# Altium footprint library Conn.Misc.PcbLib: 57 footprints (part 3 of 4)
Each footprint in its own frame and in the unit in brackets; x right, y up, seen from the top. Pads: shape width x height; smd on the part's side, far side on the other; paste and mask are expansions set on the pad; w line width, h text height; cw(c..) or ccw(c..) is an arc to the next point about the centre after c.
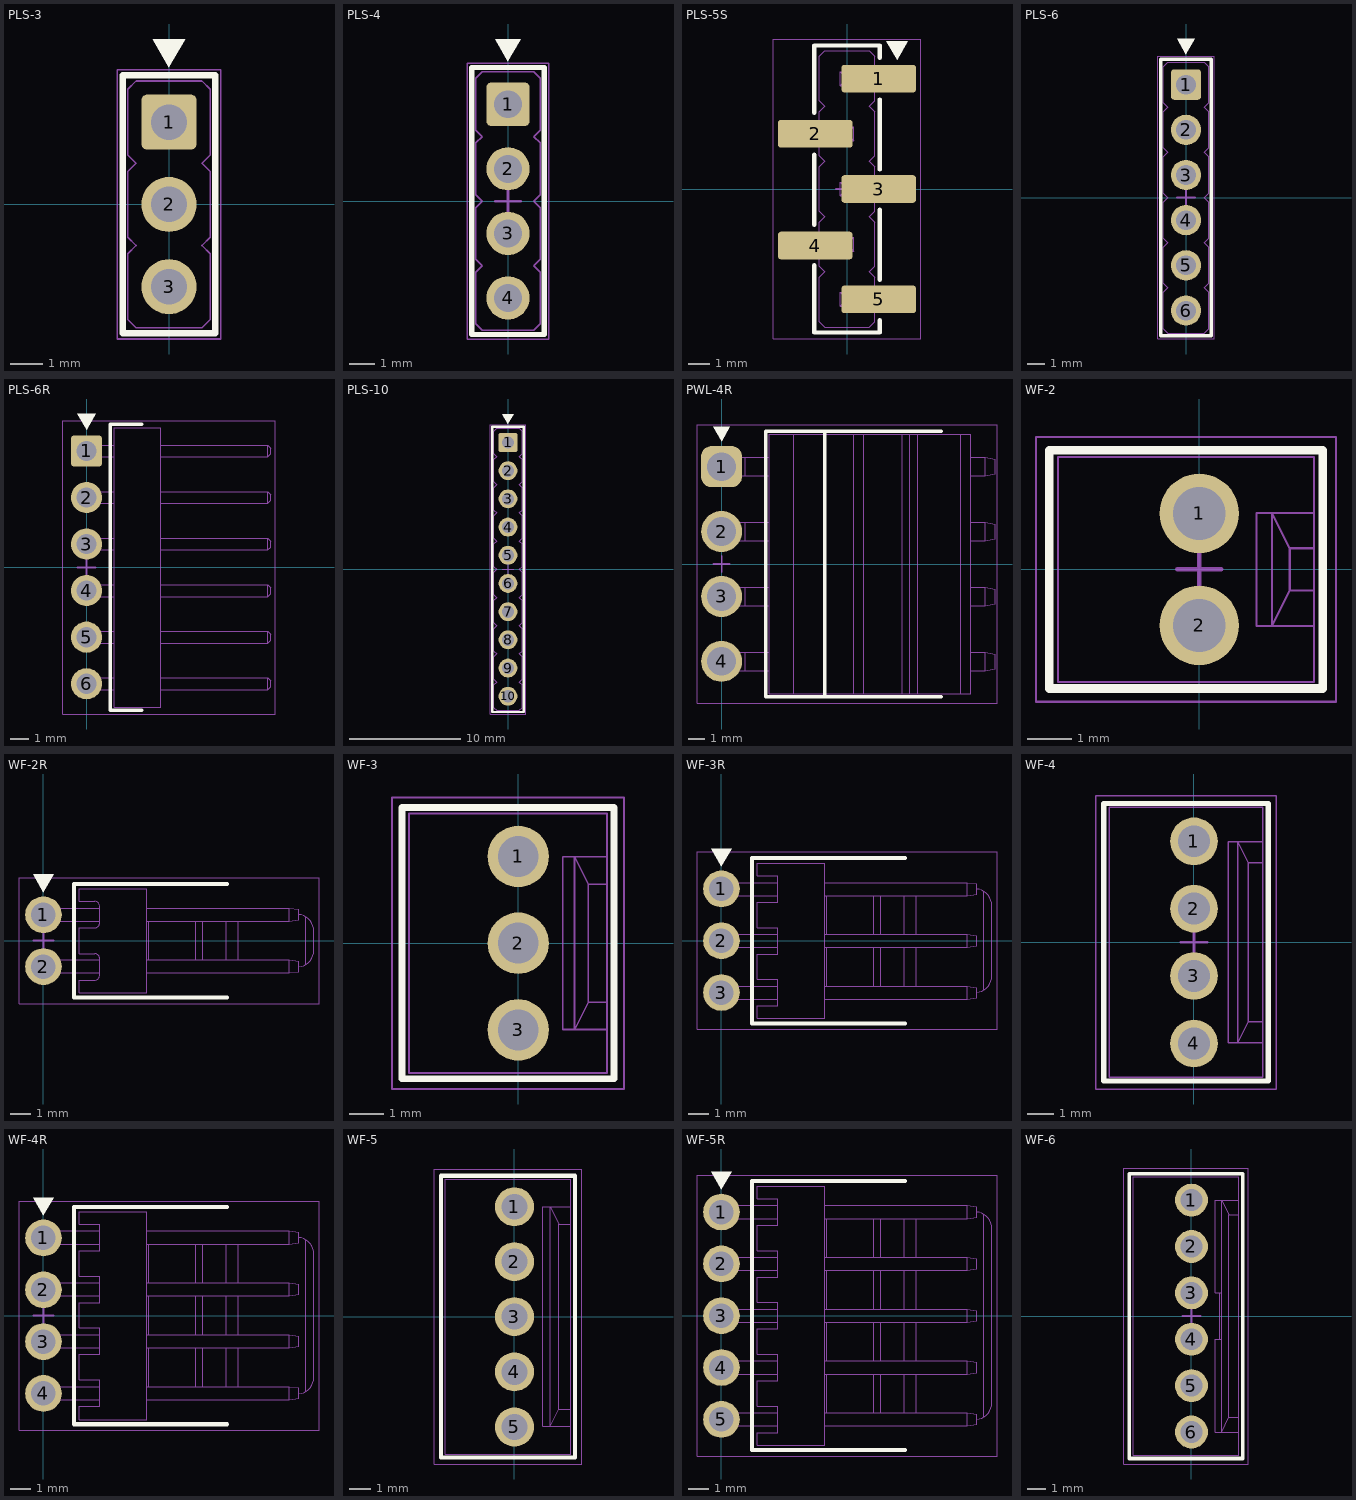
[diagram p2: the footprints below, top view; thin cyan lines are the x and y axes]

## PLS-3 [mm] "PLS Header, 2.54mm Pitch, 3-Leads"
height 8.54
pads (3):
  rrect20% 1.7x1.7 hole 1.1: 1(0,2.54)
  round 1.7 hole 1.1: 2(0,0) 3(0,-2.54)
Top Overlay:
  region: 0,4.24 0.5,5.106 -0.5,5.106
  lines w0.2: -1.425,-3.98 -1.425,3.98 1.425,3.98 1.425,-3.98 -1.425,-3.98
Mechanical 1:
  lines w0.05: -0.32,-2.86 0.32,-2.86 ; -0.32,-2.86 -0.32,-2.22 ; -0.32,-2.86 -0.16,-2.7 ; -0.32,-2.22 0.32,-2.22 ; -0.32,-2.22 -0.16,-2.38 ; -0.32,-0.32 -0.32,0.32 ; -0.32,-0.32 -0.16,-0.16 ; -0.32,-0.32 0.32,-0.32 ; -0.32,0.32 0.32,0.32 ; -0.32,0.32 -0.16,0.16 ; -0.32,2.22 -0.32,2.86 ; -0.32,2.22 -0.16,2.38 ; -0.32,2.22 0.32,2.22 ; -0.32,2.86 0.32,2.86 ; -0.32,2.86 -0.16,2.7 ; -0.16,-2.7 -0.16,-2.38 ; -0.16,-2.7 0.16,-2.7 ; -0.16,-2.38 0.16,-2.38 ; -0.16,-0.16 -0.16,0.16 ; -0.16,-0.16 0.16,-0.16 ; -0.16,0.16 0.16,0.16 ; -0.16,2.38 -0.16,2.7 ; -0.16,2.38 0.16,2.38 ; -0.16,2.7 0.16,2.7 ; 0.16,-2.7 0.32,-2.86 ; 0.16,-2.7 0.16,-2.38 ; 0.16,-2.38 0.32,-2.22 ; 0.16,-0.16 0.32,-0.32 ; 0.16,-0.16 0.16,0.16 ; 0.16,0.16 0.32,0.32 ; 0.16,2.38 0.32,2.22 ; 0.16,2.38 0.16,2.7 ; 0.16,2.7 0.32,2.86 ; 0.32,-2.86 0.32,-2.22 ; 0.32,-0.32 0.32,0.32 ; 0.32,2.22 0.32,2.86 ; -1.27,-3.556 -1.016,-3.81 1.016,-3.81 1.27,-3.556 1.27,-1.524 1.016,-1.27 1.27,-1.016 1.27,1.016 1.016,1.27 1.27,1.524 1.27,3.556 1.016,3.81 -1.016,3.81 -1.27,3.556 -1.27,1.524 -1.016,1.27 -1.27,1.016 -1.27,-1.016 -1.016,-1.27 -1.27,-1.524 -1.27,-3.556
Mechanical 15:
  lines w0.05: -1.6,-4.155 -1.6,4.155 1.6,4.155 1.6,-4.155 -1.6,-4.155
  lines w0.1: -0.5,0 0.5,0 ; 0,-0.5 0,0.5
3D body "PinHeader_1x03_P2.54mm_Vertical.step": height 8.54, standoff -3, extent -1.27,-3.81 1.27,3.81

## PLS-4 [mm] "PLS Header, 2.54mm Pitch, 3-Leads"
height 8.54
pads (4):
  rrect20% 1.7x1.7 hole 1.1: 1(0,3.81)
  round 1.7 hole 1.1: 2(0,1.27) 3(0,-1.27) 4(0,-3.81)
Top Overlay:
  region: 0,5.51 0.5,6.376 -0.5,6.376
  lines w0.2: -1.425,-5.25 1.425,-5.25 1.425,5.25 -1.425,5.25 -1.425,-5.25
Mechanical 1:
  lines w0.05: -0.32,-4.13 0.32,-4.13 ; -0.32,-4.13 -0.16,-3.97 ; -0.32,-4.13 -0.32,-3.49 ; -0.32,-3.49 -0.16,-3.65 ; -0.32,-3.49 0.32,-3.49 ; -0.32,-1.59 -0.16,-1.43 ; -0.32,-1.59 -0.32,-0.95 ; -0.32,-1.59 0.32,-1.59 ; -0.32,-0.95 -0.16,-1.11 ; -0.32,-0.95 0.32,-0.95 ; -0.32,0.95 0.32,0.95 ; -0.32,0.95 -0.16,1.11 ; -0.32,0.95 -0.32,1.59 ; -0.32,1.59 -0.16,1.43 ; -0.32,1.59 0.32,1.59 ; -0.32,3.49 0.32,3.49 ; -0.32,3.49 -0.16,3.65 ; -0.32,3.49 -0.32,4.13 ; -0.32,4.13 -0.16,3.97 ; -0.32,4.13 0.32,4.13 ; -0.16,-3.97 0.16,-3.97 ; -0.16,-3.97 -0.16,-3.65 ; -0.16,-3.65 0.16,-3.65 ; -0.16,-1.43 0.16,-1.43 ; -0.16,-1.43 -0.16,-1.11 ; -0.16,-1.11 0.16,-1.11 ; -0.16,1.11 0.16,1.11 ; -0.16,1.11 -0.16,1.43 ; -0.16,1.43 0.16,1.43 ; -0.16,3.65 0.16,3.65 ; -0.16,3.65 -0.16,3.97 ; -0.16,3.97 0.16,3.97 ; 0.16,-3.97 0.16,-3.65 ; 0.16,-3.97 0.32,-4.13 ; 0.16,-3.65 0.32,-3.49 ; 0.16,-1.43 0.16,-1.11 ; 0.16,-1.43 0.32,-1.59 ; 0.16,-1.11 0.32,-0.95 ; 0.16,1.11 0.16,1.43 ; 0.16,1.11 0.32,0.95 ; 0.16,1.43 0.32,1.59 ; 0.16,3.65 0.16,3.97 ; 0.16,3.65 0.32,3.49 ; 0.16,3.97 0.32,4.13 ; 0.32,-4.13 0.32,-3.49 ; 0.32,-1.59 0.32,-0.95 ; 0.32,0.95 0.32,1.59 ; 0.32,3.49 0.32,4.13 ; -1.27,-4.826 -1.27,-2.794 -1.016,-2.54 -1.27,-2.286 -1.27,-0.254 -1.016,0 -1.27,0.254 -1.27,2.286 -1.016,2.54 -1.27,2.794 -1.27,4.826 -1.016,5.08 1.016,5.08 1.27,4.826 1.27,2.794 1.016,2.54 1.27,2.286 1.27,0.254 1.016,0 1.27,-0.254 1.27,-2.286 1.016,-2.54 1.27,-2.794 1.27,-4.826 1.016,-5.08 -1.016,-5.08 -1.27,-4.826
Mechanical 15:
  lines w0.05: -1.6,-5.425 1.6,-5.425 1.6,5.425 -1.6,5.425 -1.6,-5.425
  lines w0.1: -0.5,0 0.5,0 ; 0,-0.5 0,0.5
3D body "PinHeader_1x04_P2.54mm_Vertical.step": height 8.54, standoff -3, extent -1.27,-5.08 1.27,5.08

## PLS-5S [mm] "PLS Header, 2.54mm Pitch, 5-Leads, Surface Mount"
height 9.3
pads (5):
  rrect20% 3.43x1.27 smd: 1(1.458,5.08) 2(-1.458,2.54) 3(1.458,0) 4(-1.458,-2.6) 5(1.458,-5.08)
Top Overlay:
  region: 2.3,5.94 2.8,6.806 1.8,6.806
  lines w0.2: -1.5,-3.5 -1.5,-6.6 1.5,-6.6 1.5,-6.04 ; -1.5,-1.64 -1.5,1.58 ; -1.5,3.5 -1.5,6.6 1.5,6.6 1.5,6.04 ; 1.5,-4.18 1.5,-0.96 ; 1.5,0.9 1.5,4.12
Mechanical 1:
  lines w0.05: -1.27,-2.86 -2.34,-2.86 ; -1.27,-2.22 -2.34,-2.22 ; -1.27,2.22 -2.34,2.22 ; -1.27,2.86 -2.34,2.86 ; 1.27,-5.4 2.34,-5.4 ; 1.27,-4.76 2.34,-4.76 ; 1.27,-0.32 2.34,-0.32 ; 1.27,0.32 2.34,0.32 ; 1.27,4.76 2.34,4.76 ; 1.27,5.4 2.34,5.4 ; -2.34,-2.86 -2.34,-2.22 ; -2.34,-2.86 -2.5,-2.7 -2.5,-2.38 -2.34,-2.22 ; -2.34,2.22 -2.34,2.86 ; -2.34,2.22 -2.5,2.38 -2.5,2.7 -2.34,2.86 ; -0.32,-5.4 0.32,-5.4 ; -0.32,-5.4 -0.16,-5.24 ; -0.32,-5.4 -0.32,-4.76 ; -0.32,-4.76 -0.16,-4.92 ; -0.32,-4.76 0.32,-4.76 ; -0.32,-2.86 0.32,-2.86 ; -0.32,-2.86 -0.16,-2.7 ; -0.32,-2.86 -0.32,-2.22 ; -0.32,-2.22 -0.16,-2.38 ; -0.32,-2.22 0.32,-2.22 ; -0.32,-0.32 0.32,-0.32 ; -0.32,-0.32 -0.16,-0.16 ; -0.32,-0.32 -0.32,0.32 ; -0.32,0.32 -0.16,0.16 ; -0.32,0.32 0.32,0.32 ; -0.32,2.22 0.32,2.22 ; -0.32,2.22 -0.16,2.38 ; -0.32,2.22 -0.32,2.86 ; -0.32,2.86 -0.16,2.7 ; -0.32,2.86 0.32,2.86 ; -0.32,4.76 -0.16,4.92 ; -0.32,4.76 -0.32,5.4 ; -0.32,4.76 0.32,4.76 ; -0.32,5.4 -0.16,5.24 ; -0.32,5.4 0.32,5.4 ; -0.16,-5.24 -0.16,-4.92 ; -0.16,-5.24 0.16,-5.24 ; -0.16,-4.92 0.16,-4.92 ; -0.16,-2.7 0.16,-2.7 ; -0.16,-2.7 -0.16,-2.38 ; -0.16,-2.38 0.16,-2.38 ; -0.16,-0.16 -0.16,0.16 ; -0.16,-0.16 0.16,-0.16 ; -0.16,0.16 0.16,0.16 ; -0.16,2.38 0.16,2.38 ; -0.16,2.38 -0.16,2.7 ; -0.16,2.7 0.16,2.7 ; -0.16,4.92 -0.16,5.24 ; -0.16,4.92 0.16,4.92 ; -0.16,5.24 0.16,5.24 ; 0.16,-5.24 0.16,-4.92 ; 0.16,-5.24 0.32,-5.4 ; 0.16,-4.92 0.32,-4.76 ; 0.16,-2.7 0.16,-2.38 ; 0.16,-2.7 0.32,-2.86 ; 0.16,-2.38 0.32,-2.22 ; 0.16,-0.16 0.16,0.16 ; 0.16,-0.16 0.32,-0.32 ; 0.16,0.16 0.32,0.32 ; 0.16,2.38 0.16,2.7 ; 0.16,2.38 0.32,2.22 ; 0.16,2.7 0.32,2.86 ; 0.16,4.92 0.16,5.24 ; 0.16,4.92 0.32,4.76 ; 0.16,5.24 0.32,5.4 ; 0.32,-5.4 0.32,-4.76 ; 0.32,-2.86 0.32,-2.22 ; 0.32,-0.32 0.32,0.32 ; 0.32,2.22 0.32,2.86 ; 0.32,4.76 0.32,5.4 ; 2.34,-5.4 2.34,-4.76 ; 2.34,-5.4 2.5,-5.24 2.5,-4.92 2.34,-4.76 ; 2.34,-0.32 2.34,0.32 ; 2.34,-0.32 2.5,-0.16 2.5,0.16 2.34,0.32 ; 2.34,4.76 2.5,4.92 2.5,5.24 2.34,5.4 ; 2.34,4.76 2.34,5.4 ; -1.27,-6.096 -1.016,-6.35 1.016,-6.35 1.27,-6.096 1.27,-4.064 1.016,-3.81 1.27,-3.556 1.27,-1.524 1.016,-1.27 1.27,-1.016 1.27,1.016 1.016,1.27 1.27,1.524 1.27,3.556 1.016,3.81 1.27,4.064 1.27,6.096 1.016,6.35 -1.016,6.35 -1.27,6.096 -1.27,4.064 -1.016,3.81 -1.27,3.556 -1.27,1.524 -1.016,1.27 -1.27,1.016 -1.27,-1.016 -1.016,-1.27 -1.27,-1.524 -1.27,-3.556 -1.016,-3.81 -1.27,-4.064 -1.27,-6.096
Mechanical 15:
  lines w0.05: -3.4,-6.9 -3.4,6.9 3.4,6.9 3.4,-6.9 -3.4,-6.9
  lines w0.1: -0.5,0 0.5,0 ; 0,-0.5 0,0.5
3D body "PinHeader_1x05_P2.54mm_Vertical_SMD_Pin1Right.step": height 9.3, standoff 0, extent -2.5,-6.35 2.5,6.35

## PLS-6 [mm] "PLS Header, 2.54mm Pitch, 6-Leads"
height 8.54
pads (6):
  rrect20% 1.7x1.7 hole 1.1: 1(0,6.35)
  round 1.7 hole 1.1: 2(0,3.81) 3(0,1.27) 4(0,-1.27) 5(0,-3.81) 6(0,-6.35)
Top Overlay:
  region: 0,8.05 0.5,8.916 -0.5,8.916
  lines w0.2: -1.425,-7.775 -1.425,7.775 1.425,7.775 1.425,-7.775 -1.425,-7.775
Mechanical 1:
  lines w0.05: -0.32,-6.67 0.32,-6.67 ; -0.32,-6.67 -0.32,-6.03 ; -0.32,-6.67 -0.16,-6.51 ; -0.32,-6.03 0.32,-6.03 ; -0.32,-6.03 -0.16,-6.19 ; -0.32,-4.13 -0.32,-3.49 ; -0.32,-4.13 -0.16,-3.97 ; -0.32,-4.13 0.32,-4.13 ; -0.32,-3.49 0.32,-3.49 ; -0.32,-3.49 -0.16,-3.65 ; -0.32,-1.59 0.32,-1.59 ; -0.32,-1.59 -0.32,-0.95 ; -0.32,-1.59 -0.16,-1.43 ; -0.32,-0.95 0.32,-0.95 ; -0.32,-0.95 -0.16,-1.11 ; -0.32,0.95 -0.32,1.59 ; -0.32,0.95 -0.16,1.11 ; -0.32,0.95 0.32,0.95 ; -0.32,1.59 0.32,1.59 ; -0.32,1.59 -0.16,1.43 ; -0.32,3.49 -0.32,4.13 ; -0.32,3.49 -0.16,3.65 ; -0.32,3.49 0.32,3.49 ; -0.32,4.13 0.32,4.13 ; -0.32,4.13 -0.16,3.97 ; -0.32,6.03 0.32,6.03 ; -0.32,6.03 -0.32,6.67 ; -0.32,6.03 -0.16,6.19 ; -0.32,6.67 0.32,6.67 ; -0.32,6.67 -0.16,6.51 ; -0.16,-6.51 -0.16,-6.19 ; -0.16,-6.51 0.16,-6.51 ; -0.16,-6.19 0.16,-6.19 ; -0.16,-3.97 -0.16,-3.65 ; -0.16,-3.97 0.16,-3.97 ; -0.16,-3.65 0.16,-3.65 ; -0.16,-1.43 -0.16,-1.11 ; -0.16,-1.43 0.16,-1.43 ; -0.16,-1.11 0.16,-1.11 ; -0.16,1.11 -0.16,1.43 ; -0.16,1.11 0.16,1.11 ; -0.16,1.43 0.16,1.43 ; -0.16,3.65 -0.16,3.97 ; -0.16,3.65 0.16,3.65 ; -0.16,3.97 0.16,3.97 ; -0.16,6.19 -0.16,6.51 ; -0.16,6.19 0.16,6.19 ; -0.16,6.51 0.16,6.51 ; 0.16,-6.51 0.32,-6.67 ; 0.16,-6.51 0.16,-6.19 ; 0.16,-6.19 0.32,-6.03 ; 0.16,-3.97 0.32,-4.13 ; 0.16,-3.97 0.16,-3.65 ; 0.16,-3.65 0.32,-3.49 ; 0.16,-1.43 0.32,-1.59 ; 0.16,-1.43 0.16,-1.11 ; 0.16,-1.11 0.32,-0.95 ; 0.16,1.11 0.32,0.95 ; 0.16,1.11 0.16,1.43 ; 0.16,1.43 0.32,1.59 ; 0.16,3.65 0.32,3.49 ; 0.16,3.65 0.16,3.97 ; 0.16,3.97 0.32,4.13 ; 0.16,6.19 0.32,6.03 ; 0.16,6.19 0.16,6.51 ; 0.16,6.51 0.32,6.67 ; 0.32,-6.67 0.32,-6.03 ; 0.32,-4.13 0.32,-3.49 ; 0.32,-1.59 0.32,-0.95 ; 0.32,0.95 0.32,1.59 ; 0.32,3.49 0.32,4.13 ; 0.32,6.03 0.32,6.67 ; -1.27,-7.366 -1.016,-7.62 1.016,-7.62 1.27,-7.366 1.27,-5.334 1.016,-5.08 1.27,-4.826 1.27,-2.794 1.016,-2.54 1.27,-2.286 1.27,-0.254 1.016,0 1.27,0.254 1.27,2.286 1.016,2.54 1.27,2.794 1.27,4.826 1.016,5.08 1.27,5.334 1.27,7.366 1.016,7.62 -1.016,7.62 -1.27,7.366 -1.27,5.334 -1.016,5.08 -1.27,4.826 -1.27,2.794 -1.016,2.54 -1.27,2.286 -1.27,0.254 -1.016,0 -1.27,-0.254 -1.27,-2.286 -1.016,-2.54 -1.27,-2.794 -1.27,-4.826 -1.016,-5.08 -1.27,-5.334 -1.27,-7.366
Mechanical 15:
  lines w0.05: -1.6,-7.95 -1.6,7.95 1.6,7.95 1.6,-7.95 -1.6,-7.95
  lines w0.1: -0.5,0 0.5,0 ; 0,-0.5 0,0.5
3D body "PinHeader_1x06_P2.54mm_Vertical.step": height 8.54, standoff -3, extent -1.27,-7.62 1.27,7.62

## PLS-6R [mm] "PLS Header, 2.54mm Pitch, 6-Leads, Right Angled"
height 2.54
pads (6):
  rrect20% 1.7x1.7 hole 1.1: 1(0,6.35)
  round 1.7 hole 1.1: 2(0,3.81) 3(0,1.27) 4(0,-1.27) 5(0,-3.81) 6(0,-6.35)
Top Overlay:
  region: 0,7.5 0.5,8.366 -0.5,8.366
  lines w0.2: 3,-7.8 1.3,-7.8 1.3,7.8 3,7.8
Mechanical 1:
  lines w0.05: 0.32,-6.67 0.32,-6.03 ; 0.32,-4.13 0.32,-3.49 ; 0.32,-1.59 0.32,-0.95 ; 0.32,0.95 0.32,1.59 ; 0.32,3.49 0.32,4.13 ; 0.32,6.03 0.32,6.67 ; 1.5,-6.67 -0.32,-6.67 -0.32,-6.03 1.5,-6.03 ; 1.5,-4.13 -0.32,-4.13 -0.32,-3.49 1.5,-3.49 ; 1.5,-1.59 -0.32,-1.59 -0.32,-0.95 1.5,-0.95 ; 1.5,0.95 -0.32,0.95 -0.32,1.59 1.5,1.59 ; 1.5,3.49 -0.32,3.49 -0.32,4.13 1.5,4.13 ; 1.5,6.03 -0.32,6.03 -0.32,6.67 1.5,6.67 ; 4.04,-6.67 9.88,-6.67 ; 4.04,-6.03 9.88,-6.03 ; 4.04,-4.13 9.88,-4.13 ; 4.04,-3.49 9.88,-3.49 ; 4.04,-1.59 9.88,-1.59 ; 4.04,-0.95 9.88,-0.95 ; 4.04,0.95 9.88,0.95 ; 4.04,1.59 9.88,1.59 ; 4.04,3.49 9.88,3.49 ; 4.04,4.13 9.88,4.13 ; 4.04,6.03 9.88,6.03 ; 4.04,6.67 9.88,6.67 ; 9.88,-6.67 10.04,-6.51 10.04,-6.19 9.88,-6.03 ; 9.88,-6.67 9.88,-6.03 ; 9.88,-4.13 9.88,-3.49 ; 9.88,-4.13 10.04,-3.97 10.04,-3.65 9.88,-3.49 ; 9.88,-1.59 10.04,-1.43 10.04,-1.11 9.88,-0.95 ; 9.88,-1.59 9.88,-0.95 ; 9.88,0.95 10.04,1.11 10.04,1.43 9.88,1.59 ; 9.88,0.95 9.88,1.59 ; 9.88,3.49 9.88,4.13 ; 9.88,3.49 10.04,3.65 10.04,3.97 9.88,4.13 ; 9.88,6.03 9.88,6.67 ; 9.88,6.03 10.04,6.19 10.04,6.51 9.88,6.67 ; 1.5,-7.62 1.5,7.62 4.04,7.62 4.04,-7.62 1.5,-7.62
Mechanical 15:
  lines w0.05: -1.3,-8 -1.3,8 10.3,8 10.3,-8 -1.3,-8
  lines w0.1: -0.5,0 0.5,0 ; 0,-0.5 0,0.5
3D body "PinHeader_1x06_P2.54mm_Horizontal.step": height 2.54, standoff -3, extent -0.32,-7.62 10.04,7.62

## PLS-10 [mm] "PLS Header, 2.54mm Pitch, 10-Leads"
height 8.54
pads (10):
  rrect20% 1.7x1.7 hole 1.1: 1(0,11.43)
  round 1.7 hole 1.1: 2(0,8.89) 3(0,6.35) 4(0,3.81) 5(0,1.27) 6(0,-1.27) 7(0,-3.81) 8(0,-6.35) 9(0,-8.89) 10(0,-11.43)
Top Overlay:
  region: 0,13.13 0.5,13.996 -0.5,13.996
  lines w0.2: -1.425,-12.855 1.425,-12.855 1.425,12.855 -1.425,12.855 -1.425,-12.855
Mechanical 1:
  drawing of 182 lines, arcs and shapes, not listed
Mechanical 15:
  lines w0.05: -1.6,-13.03 1.6,-13.03 1.6,13.03 -1.6,13.03 -1.6,-13.03
  lines w0.1: -0.5,0 0.5,0 ; 0,-0.5 0,0.5
3D body "PinHeader_1x10_P2.54mm_Vertical.step": height 8.54, standoff -3, extent -1.27,-12.7 1.27,12.7

## PWL-4R [mm] "PWL Header, 4-Pins, 3.96mm Pitch"
height 9.7
pads (4):
  rrect50% 2.5x2.5 hole 1.75: 1(0,5.94)
  round 2.5 hole 1.75: 2(0,1.98) 3(0,-1.98) 4(0,-5.94)
Top Overlay:
  region: 0,7.5 0.5,8.366 -0.5,8.366
  lines w0.2: 6.3,-8.1 6.3,8.1 ; 13.4,-8.1 2.7,-8.1 2.7,8.1 13.4,8.1
Mechanical 1:
  lines w0.05: 1.43,-6.51 1.43,-5.37 ; 1.43,-2.55 1.43,-1.41 ; 1.43,1.41 1.43,2.55 ; 1.43,5.37 1.43,6.51 ; 2.898,-6.51 -0.57,-6.51 -0.57,-5.37 2.898,-5.37 ; 2.898,-2.55 -0.57,-2.55 -0.57,-1.41 2.898,-1.41 ; 2.898,1.41 -0.57,1.41 -0.57,2.55 2.898,2.55 ; 2.898,5.37 -0.57,5.37 -0.57,6.51 2.898,6.51 ; 4.398,-7.92 4.398,7.92 ; 8.071,-7.92 8.071,7.92 ; 8.662,-7.92 8.662,7.92 ; 11.009,-7.92 11.009,7.92 ; 11.481,-7.92 11.481,7.92 ; 11.975,-7.92 11.975,7.92 ; 14.581,-7.92 14.581,7.92 ; 15.198,-6.51 16.098,-6.51 ; 15.198,-5.37 16.098,-5.37 ; 15.198,-2.55 16.098,-2.55 ; 15.198,-1.41 16.098,-1.41 ; 15.198,1.41 16.098,1.41 ; 15.198,2.55 16.098,2.55 ; 15.198,5.37 16.098,5.37 ; 15.198,6.51 16.098,6.51 ; 16.098,-6.51 16.698,-6.382 16.698,-5.498 16.098,-5.37 ; 16.098,-6.51 16.098,-5.37 ; 16.098,-2.55 16.098,-1.41 ; 16.098,-2.55 16.698,-2.422 16.698,-1.538 16.098,-1.41 ; 16.098,1.41 16.098,2.55 ; 16.098,1.41 16.698,1.538 16.698,2.422 16.098,2.55 ; 16.098,5.37 16.698,5.498 16.698,6.382 16.098,6.51 ; 16.098,5.37 16.098,6.51 ; 2.898,-7.92 15.198,-7.92 15.198,7.92 2.898,7.92 2.898,-7.92
Mechanical 15:
  lines w0.05: -1.5,-8.5 -1.5,8.5 16.8,8.5 16.8,-8.5 -1.5,-8.5
  lines w0.1: -0.5,0 0.5,0 ; 0,-0.5 0,0.5
3D body "PWL-4R.STEP": height 10.4, standoff -3.7, extent -0.57,-7.92 16.698,7.92

## WF-2 [mm] "WF Header, 2-Lead, 2.54mm Pitch"
height 11.5
pads (2):
  round 1.8 hole 1.2: 1(0,1.27) 2(0,-1.27)
Top Overlay:
  lines w0.2: -3.4,-2.7 -3.4,2.7 2.8,2.7 2.8,-2.7 -3.4,-2.7
Bottom Overlay:
  region: 0,2.38 0.5,3.246 -0.5,3.246
Mechanical 1:
  lines w0.05: 2.6,-1.28 1.3,-1.28 1.3,1.28 2.6,1.28 ; 2.6,-0.48 2.05,-0.48 ; 2.6,0.48 2.05,0.48 ; -0.32,-0.95 0.32,-0.95 ; -0.32,-0.95 -0.25,-1.02 ; -0.32,-0.95 -0.32,-1.61 0.32,-1.61 0.32,-0.95 ; -0.32,0.95 0.32,0.95 ; -0.32,0.95 -0.25,1.02 ; -0.32,0.95 -0.32,1.59 ; -0.32,1.59 -0.25,1.52 ; -0.32,1.59 0.32,1.59 ; -0.25,-1.52 -0.32,-1.59 0.32,-1.59 0.25,-1.52 ; -0.25,-1.52 -0.25,-1.02 ; -0.25,-1.52 0.25,-1.52 ; -0.25,-1.02 0.25,-1.02 ; -0.25,1.02 0.25,1.02 ; -0.25,1.02 -0.25,1.52 ; -0.25,1.52 0.25,1.52 ; 0.25,-1.52 0.25,-1.02 ; 0.25,-1.02 0.32,-0.95 ; 0.25,1.02 0.32,0.95 ; 0.25,1.02 0.25,1.52 ; 0.25,1.52 0.32,1.59 ; 0.32,0.95 0.32,1.59 ; 2.05,-0.48 1.65,-1.28 1.65,1.28 2.05,0.48 ; 2.05,-0.48 2.05,0.48 ; -3.2,-2.55 -3.2,2.55 2.6,2.55 2.6,-2.55 -3.2,-2.55
Mechanical 15:
  lines w0.05: -3.7,-3 3.1,-3 3.1,3 -3.7,3 -3.7,-3
  lines w0.1: -0.5,0 0.5,0 ; 0,-0.5 0,0.5
3D body "CI3102P1V00.STEP": height 11.5, standoff -3.4, extent -3.2,-2.55 2.6,2.55

## WF-2R [mm] "WF Header, 2-Lead, 2.54mm Pitch, Right-Angle Mount"
height 5.8
pads (2):
  round 1.8 hole 1.2: 1(0,1.27) 2(0,-1.27)
Top Overlay:
  region: 0,2.38 -0.5,3.246 0.5,3.246
  lines w0.2: 9,-2.78 1.5,-2.78 1.5,2.78 9,2.78
Mechanical 1:
  lines w0.05: 0.5,-1.58 0.5,-0.94 ; 0.5,0.96 0.5,1.6 ; 2.75,-1.58 -0.32,-1.58 -0.32,-0.94 2.75,-0.94 ; 2.75,0.96 -0.32,0.96 -0.32,1.6 2.75,1.6 ; 5.05,-1.58 12.05,-1.58 ; 5.05,-0.94 12.05,-0.94 ; 5.05,0.96 12.05,0.96 ; 5.05,1.6 12.05,1.6 ; 5.15,-0.94 5.15,0.96 ; 7.45,-0.94 7.45,0.96 ; 7.8,-0.94 7.8,0.96 ; 8.944,-0.94 8.944,0.96 ; 9.55,-0.94 9.55,0.96 ; 12.5,-1.278 ccw(c12.45,-0.48) 13.25,-0.48 13.25,0.48 ccw(c12.45,0.48) 12.5,1.279 ; 12.85,-1.173 12.85,1.173 ; 12.05,-1.58 12.5,-1.51 12.5,-1.01 12.05,-0.94 ; 12.05,-1.58 12.05,-0.94 ; 12.05,0.96 12.5,1.03 12.5,1.53 12.05,1.6 ; 12.05,0.96 12.05,1.6 ; 1.75,-2.55 5.05,-2.55 5.05,2.55 1.75,2.55 1.75,1.93 2.5,1.93 cw(c2.5,1.68) 2.75,1.68 2.75,0.88 cw(c2.5,0.88) 2.5,0.63 1.75,0.63 1.75,-0.63 2.5,-0.63 cw(c2.5,-0.88) 2.75,-0.88 2.75,-1.68 cw(c2.5,-1.68) 2.5,-1.93 1.75,-1.93 1.75,-2.55
Mechanical 15:
  lines w0.05: -1.2,-3.08 13.5,-3.08 13.5,3.08 -1.2,3.08 -1.2,-3.08
  lines w0.1: -0.5,0 0.5,0 ; 0,-0.5 0,0.5
3D body "CI3102P1H00-NH.STEP": height 5.8, standoff -3.4, extent -0.32,-2.55 13.25,2.55

## WF-3 [mm] "WF Header, 3-Lead, 2.54mm Pitch"
height 11.5
pads (3):
  round 1.8 hole 1.2: 1(0,2.54) 2(0,0) 3(0,-2.54)
Top Overlay:
  lines w0.2: -3.4,-3.97 -3.4,3.97 2.8,3.97 2.8,-3.97 -3.4,-3.97
Bottom Overlay:
  region: 0,3.65 0.5,4.516 -0.5,4.516
Mechanical 1:
  lines w0.05: 2.6,-2.53 1.3,-2.53 1.3,2.53 2.6,2.53 ; 2.6,-1.73 2.05,-1.73 ; 2.6,1.73 2.05,1.73 ; -0.32,-2.87 0.32,-2.87 ; -0.32,-2.87 -0.25,-2.8 ; -0.32,-2.87 -0.32,-2.23 ; -0.32,-2.23 0.32,-2.23 ; -0.32,-2.23 -0.25,-2.3 ; -0.32,-0.33 0.32,-0.33 ; -0.32,-0.33 -0.25,-0.26 ; -0.32,-0.33 -0.32,0.31 ; -0.32,0.31 -0.25,0.24 ; -0.32,0.31 0.32,0.31 ; -0.32,2.21 0.32,2.21 ; -0.32,2.21 -0.25,2.28 ; -0.32,2.21 -0.32,2.85 ; -0.32,2.85 -0.25,2.78 ; -0.32,2.85 0.32,2.85 ; -0.25,-2.8 -0.25,-2.3 ; -0.25,-2.8 0.25,-2.8 ; -0.25,-2.3 0.25,-2.3 ; -0.25,-0.26 0.25,-0.26 ; -0.25,-0.26 -0.25,0.24 ; -0.25,0.24 0.25,0.24 ; -0.25,2.28 0.25,2.28 ; -0.25,2.28 -0.25,2.78 ; -0.25,2.78 0.25,2.78 ; 0.25,-2.8 0.32,-2.87 ; 0.25,-2.8 0.25,-2.3 ; 0.25,-2.3 0.32,-2.23 ; 0.25,-0.26 0.32,-0.33 ; 0.25,-0.26 0.25,0.24 ; 0.25,0.24 0.32,0.31 ; 0.25,2.28 0.32,2.21 ; 0.25,2.28 0.25,2.78 ; 0.25,2.78 0.32,2.85 ; 0.32,-2.87 0.32,-2.23 ; 0.32,-0.33 0.32,0.31 ; 0.32,2.21 0.32,2.85 ; 2.05,-1.73 1.65,-2.53 1.65,2.53 2.05,1.73 ; 2.05,-1.73 2.05,1.73 ; -3.2,-3.8 -3.2,3.8 2.6,3.8 2.6,-3.8 -3.2,-3.8
Mechanical 15:
  lines w0.05: -3.7,-4.27 3.1,-4.27 3.1,4.27 -3.7,4.27 -3.7,-4.27
  lines w0.1: -0.5,0 0.5,0 ; 0,-0.5 0,0.5
3D body "CI3103P1V00.STEP": height 11.5, standoff -3.4, extent -3.2,-3.8 2.6,3.8

## WF-3R [mm] "WF Header, 3-Lead, 2.54mm Pitch, Right-Angle Mount"
height 5.8
pads (3):
  round 1.8 hole 1.2: 1(0,2.54) 2(0,0) 3(0,-2.54)
Top Overlay:
  region: 0,3.65 -0.5,4.516 0.5,4.516
  lines w0.2: 9,-4.05 1.5,-4.05 1.5,4.05 9,4.05
Mechanical 1:
  lines w0.05: 0.5,-2.87 0.5,-2.23 ; 0.5,-0.33 0.5,0.31 ; 0.5,2.21 0.5,2.85 ; 2.75,-2.87 -0.32,-2.87 -0.32,-2.23 2.75,-2.23 ; 2.75,-0.33 -0.32,-0.33 -0.32,0.31 2.75,0.31 ; 2.75,2.21 -0.32,2.21 -0.32,2.85 2.75,2.85 ; 5.05,-2.87 12.05,-2.87 ; 5.05,-2.23 12.05,-2.23 ; 5.05,-0.33 12.05,-0.33 ; 5.05,0.31 12.05,0.31 ; 5.05,2.21 12.05,2.21 ; 5.05,2.85 12.05,2.85 ; 5.15,-2.23 5.15,-0.33 ; 5.15,0.31 5.15,2.21 ; 7.45,-2.23 7.45,-0.33 ; 7.45,0.31 7.45,2.21 ; 7.8,-2.23 7.8,-0.33 ; 7.8,0.31 7.8,2.21 ; 8.944,-2.23 8.944,-0.33 ; 8.944,0.31 8.944,2.21 ; 9.55,-2.23 9.55,-0.33 ; 9.55,0.31 9.55,2.21 ; 12.5,-2.528 ccw(c12.45,-1.73) 13.25,-1.73 13.25,1.73 ccw(c12.45,1.73) 12.5,2.529 ; 12.85,-2.423 12.85,2.423 ; 12.05,-2.87 12.05,-2.23 ; 12.05,-2.87 12.5,-2.8 12.5,-2.3 12.05,-2.23 ; 12.05,-0.33 12.5,-0.26 12.5,0.24 12.05,0.31 ; 12.05,-0.33 12.05,0.31 ; 12.05,2.21 12.5,2.28 12.5,2.78 12.05,2.85 ; 12.05,2.21 12.05,2.85 ; 1.75,-3.8 1.75,-3.2 2.75,-3.2 2.75,-1.9 1.75,-1.9 1.75,-0.66 2.75,-0.66 2.75,0.64 1.75,0.64 1.75,1.88 2.75,1.88 2.75,3.18 1.75,3.18 1.75,3.8 5.05,3.8 5.05,-3.8 1.75,-3.8
Mechanical 15:
  lines w0.05: -1.2,-4.35 13.5,-4.35 13.5,4.35 -1.2,4.35 -1.2,-4.35
  lines w0.1: -0.5,0 0.5,0 ; 0,-0.5 0,0.5
3D body "CI3103P1H00-NH.STEP": height 5.8, standoff -3.4, extent -0.32,-3.8 13.25,3.8

## WF-4 [mm] "WF Header, 4-Lead, 2.54mm Pitch"
height 11.5
pads (4):
  round 1.8 hole 1.2: 1(0,3.81) 2(0,1.27) 3(0,-1.27) 4(0,-3.82)
Top Overlay:
  lines w0.2: -3.4,-5.24 -3.4,5.24 2.8,5.24 2.8,-5.24 -3.4,-5.24
Bottom Overlay:
  region: 0,4.92 0.5,5.786 -0.5,5.786
Mechanical 1:
  lines w0.05: 2.6,-3.8 1.3,-3.8 1.3,3.8 2.6,3.8 ; 2.6,-3 2.05,-3 ; 2.6,3 2.05,3 ; -0.32,-4.15 0.32,-4.15 ; -0.32,-4.15 -0.25,-4.08 ; -0.32,-4.15 -0.32,-3.51 ; -0.32,-3.51 0.32,-3.51 ; -0.32,-3.51 -0.25,-3.58 ; -0.32,-1.6 0.32,-1.6 ; -0.32,-1.6 -0.25,-1.53 ; -0.32,-1.6 -0.32,-0.96 ; -0.32,-0.96 0.32,-0.96 ; -0.32,-0.96 -0.25,-1.03 ; -0.32,0.94 0.32,0.94 ; -0.32,0.94 -0.25,1.01 ; -0.32,0.94 -0.32,1.58 ; -0.32,1.58 -0.25,1.51 ; -0.32,1.58 0.32,1.58 ; -0.32,3.48 0.32,3.48 ; -0.32,3.48 -0.25,3.55 ; -0.32,3.48 -0.32,4.12 ; -0.32,4.12 -0.25,4.05 ; -0.32,4.12 0.32,4.12 ; -0.25,-4.08 -0.25,-3.58 ; -0.25,-4.08 0.25,-4.08 ; -0.25,-3.58 0.25,-3.58 ; -0.25,-1.53 -0.25,-1.03 ; -0.25,-1.53 0.25,-1.53 ; -0.25,-1.03 0.25,-1.03 ; -0.25,1.01 0.25,1.01 ; -0.25,1.01 -0.25,1.51 ; -0.25,1.51 0.25,1.51 ; -0.25,3.55 0.25,3.55 ; -0.25,3.55 -0.25,4.05 ; -0.25,4.05 0.25,4.05 ; 0.25,-4.08 0.32,-4.15 ; 0.25,-4.08 0.25,-3.58 ; 0.25,-3.58 0.32,-3.51 ; 0.25,-1.53 0.32,-1.6 ; 0.25,-1.53 0.25,-1.03 ; 0.25,-1.03 0.32,-0.96 ; 0.25,1.01 0.32,0.94 ; 0.25,1.01 0.25,1.51 ; 0.25,1.51 0.32,1.58 ; 0.25,3.55 0.32,3.48 ; 0.25,3.55 0.25,4.05 ; 0.25,4.05 0.32,4.12 ; 0.32,-4.15 0.32,-3.51 ; 0.32,-1.6 0.32,-0.96 ; 0.32,0.94 0.32,1.58 ; 0.32,3.48 0.32,4.12 ; 2.05,-3 1.65,-3.8 1.65,3.8 2.05,3 ; 2.05,-3 2.05,3 ; -3.2,-5.1 2.6,-5.1 2.6,5.1 -3.2,5.1 -3.2,-5.1
Mechanical 15:
  lines w0.05: -3.7,-5.54 3.1,-5.54 3.1,5.54 -3.7,5.54 -3.7,-5.54
  lines w0.1: -0.5,0 0.5,0 ; 0,-0.5 0,0.5
3D body "CI3104P1V00.STEP": height 11.5, standoff -3.4, extent -3.2,-5.1 2.6,5.1

## WF-4R [mm] "WF Header, 4-Lead, 2.54mm Pitch, Right-Angle Mount"
height 5.8
pads (4):
  round 1.8 hole 1.2: 1(0,3.81) 2(0,1.27) 3(0,-1.27) 4(0,-3.81)
Top Overlay:
  region: 0,4.92 -0.5,5.786 0.5,5.786
  lines w0.2: 9,-5.32 1.5,-5.32 1.5,5.32 9,5.32
Mechanical 1:
  lines w0.05: 0.5,-4.11 0.5,-3.47 ; 0.5,-1.57 0.5,-0.93 ; 0.5,0.97 0.5,1.61 ; 0.5,3.51 0.5,4.15 ; 2.75,-4.11 -0.32,-4.11 -0.32,-3.47 2.75,-3.47 ; 2.75,-1.57 -0.32,-1.57 -0.32,-0.93 2.75,-0.93 ; 2.75,0.97 -0.32,0.97 -0.32,1.61 2.75,1.61 ; 2.75,3.51 -0.32,3.51 -0.32,4.15 2.75,4.15 ; 5.05,-4.11 12.05,-4.11 ; 5.05,-3.47 12.05,-3.47 ; 5.05,-1.57 12.05,-1.57 ; 5.05,-0.93 12.05,-0.93 ; 5.05,0.97 12.05,0.97 ; 5.05,1.61 12.05,1.61 ; 5.05,3.51 12.05,3.51 ; 5.05,4.15 12.05,4.15 ; 5.15,-3.47 5.15,-1.57 ; 5.15,-0.93 5.15,0.97 ; 5.15,1.61 5.15,3.51 ; 7.45,-3.47 7.45,-1.57 ; 7.45,-0.93 7.45,0.97 ; 7.45,1.61 7.45,3.51 ; 7.8,-3.47 7.8,-1.57 ; 7.8,-0.93 7.8,0.97 ; 7.8,1.61 7.8,3.51 ; 8.944,-3.47 8.944,-1.57 ; 8.944,-0.93 8.944,0.97 ; 8.944,1.61 8.944,3.51 ; 9.55,-3.47 9.55,-1.57 ; 9.55,-0.93 9.55,0.97 ; 9.55,1.61 9.55,3.51 ; 12.5,-3.828 ccw(c12.45,-3.03) 13.25,-3.03 13.25,3.03 ccw(c12.45,3.03) 12.5,3.829 ; 12.85,-3.723 12.85,3.723 ; 12.05,-4.11 12.05,-3.47 ; 12.05,-4.11 12.5,-4.04 12.5,-3.54 12.05,-3.47 ; 12.05,-1.57 12.05,-0.93 ; 12.05,-1.57 12.5,-1.5 12.5,-1 12.05,-0.93 ; 12.05,0.97 12.05,1.61 ; 12.05,0.97 12.5,1.04 12.5,1.54 12.05,1.61 ; 12.05,3.51 12.05,4.15 ; 12.05,3.51 12.5,3.58 12.5,4.08 12.05,4.15 ; 1.75,-5.1 5.05,-5.1 5.05,5.1 1.75,5.1 1.75,4.48 2.75,4.48 2.75,3.18 1.75,3.18 1.75,1.94 2.75,1.94 2.75,0.64 1.75,0.64 1.75,-0.6 2.75,-0.6 2.75,-1.9 1.75,-1.9 1.75,-3.14 2.75,-3.14 2.75,-4.44 1.75,-4.44 1.75,-5.1
Mechanical 15:
  lines w0.05: -1.2,-5.62 13.5,-5.62 13.5,5.62 -1.2,5.62 -1.2,-5.62
  lines w0.1: -0.5,0 0.5,0 ; 0,-0.5 0,0.5
3D body "CI3104P1H00-NH.STEP": height 5.8, standoff -3.4, extent -0.32,-5.1 13.25,5.1

## WF-5 [mm] "WF Header, 5-Lead, 2.54mm Pitch"
height 11.5
pads (5):
  round 1.8 hole 1.2: 1(0,5.08) 2(0,2.54) 3(0,0) 4(0,-2.55) 5(0,-5.1)
Top Overlay:
  lines w0.2: -3.4,-6.51 -3.4,6.51 2.8,6.51 2.8,-6.51 -3.4,-6.51
Bottom Overlay:
  region: 0,6.19 0.5,7.056 -0.5,7.056
Mechanical 1:
  lines w0.05: 2.6,-5.07 1.3,-5.07 1.3,5.07 2.6,5.07 ; 2.6,-4.27 2.05,-4.27 ; 2.6,4.27 2.05,4.27 ; -0.32,-0.33 0.32,-0.33 ; -0.32,-0.33 -0.25,-0.26 ; -0.32,-0.33 -0.32,0.31 ; -0.32,0.31 0.32,0.31 ; -0.32,0.31 -0.25,0.24 ; -0.32,2.21 0.32,2.21 ; -0.32,2.21 -0.25,2.28 ; -0.32,2.21 -0.32,2.85 ; -0.32,2.85 -0.25,2.78 ; -0.32,2.85 0.32,2.85 ; -0.32,4.75 0.32,4.75 ; -0.32,4.75 -0.25,4.82 ; -0.32,4.75 -0.32,5.39 ; -0.32,5.39 -0.25,5.32 ; -0.32,5.39 0.32,5.39 ; -0.25,-0.26 -0.25,0.24 ; -0.25,-0.26 0.25,-0.26 ; -0.25,0.24 0.25,0.24 ; -0.25,2.28 0.25,2.28 ; -0.25,2.28 -0.25,2.78 ; -0.25,2.78 0.25,2.78 ; -0.25,4.82 0.25,4.82 ; -0.25,4.82 -0.25,5.32 ; -0.25,5.32 0.25,5.32 ; 0.25,-0.26 0.32,-0.33 ; 0.25,-0.26 0.25,0.24 ; 0.25,0.24 0.32,0.31 ; 0.25,2.28 0.32,2.21 ; 0.25,2.28 0.25,2.78 ; 0.25,2.78 0.32,2.85 ; 0.25,4.82 0.32,4.75 ; 0.25,4.82 0.25,5.32 ; 0.25,5.32 0.32,5.39 ; 0.32,-0.33 0.32,0.31 ; 0.32,2.21 0.32,2.85 ; 0.32,4.75 0.32,5.39 ; 2.05,-4.27 1.65,-5.07 1.65,5.07 2.05,4.27 ; 2.05,-4.27 2.05,4.27 ; -3.2,-6.35 -3.2,6.35 2.6,6.35 2.6,-6.35 -3.2,-6.35
Mechanical 15:
  lines w0.05: -3.7,-6.81 3.1,-6.81 3.1,6.81 -3.7,6.81 -3.7,-6.81
  lines w0.1: -0.5,0 0.5,0 ; 0,-0.5 0,0.5
3D body "CI3105P1V00.STEP": height 11.5, standoff -3.4, extent -3.2,-6.35 2.6,6.35

## WF-5R [mm] "WF Header, 5-Lead, 2.54mm Pitch, Right-Angle Mount"
height 5.8
pads (5):
  round 1.8 hole 1.2: 1(0,5.08) 2(0,2.54) 3(0,0) 4(0,-2.54) 5(0,-5.08)
Top Overlay:
  region: 0,6.19 -0.5,7.056 0.5,7.056
  lines w0.2: 9,-6.59 1.5,-6.59 1.5,6.59 9,6.59
Mechanical 1:
  lines w0.05: 0.5,-5.4 0.5,-4.76 ; 0.5,-2.86 0.5,-2.22 ; 0.5,-0.32 0.5,0.32 ; 0.5,2.22 0.5,2.86 ; 0.5,4.76 0.5,5.4 ; 2.75,-5.4 -0.32,-5.4 -0.32,-4.76 2.75,-4.76 ; 2.75,-2.86 -0.32,-2.86 -0.32,-2.22 2.75,-2.22 ; 2.75,-0.32 -0.32,-0.32 -0.32,0.32 2.75,0.32 ; 2.75,2.22 -0.32,2.22 -0.32,2.86 2.75,2.86 ; 2.75,4.76 -0.32,4.76 -0.32,5.4 2.75,5.4 ; 5.05,-5.4 12.05,-5.4 ; 5.05,-4.76 12.05,-4.76 ; 5.05,-2.86 12.05,-2.86 ; 5.05,-2.22 12.05,-2.22 ; 5.05,-0.32 12.05,-0.32 ; 5.05,0.32 12.05,0.32 ; 5.05,2.22 12.05,2.22 ; 5.05,2.86 12.05,2.86 ; 5.05,4.76 12.05,4.76 ; 5.05,5.4 12.05,5.4 ; 5.15,-4.76 5.15,-2.86 ; 5.15,-2.22 5.15,-0.32 ; 5.15,0.32 5.15,2.22 ; 5.15,2.86 5.15,4.76 ; 7.45,-4.76 7.45,-2.86 ; 7.45,-2.22 7.45,-0.32 ; 7.45,0.32 7.45,2.22 ; 7.45,2.86 7.45,4.76 ; 7.8,-4.76 7.8,-2.86 ; 7.8,-2.22 7.8,-0.32 ; 7.8,0.32 7.8,2.22 ; 7.8,2.86 7.8,4.76 ; 8.944,-4.76 8.944,-2.86 ; 8.944,-2.22 8.944,-0.32 ; 8.944,0.32 8.944,2.22 ; 8.944,2.86 8.944,4.76 ; 9.55,-4.76 9.55,-2.86 ; 9.55,-2.22 9.55,-0.32 ; 9.55,0.32 9.55,2.22 ; 9.55,2.86 9.55,4.76 ; 12.5,-5.078 ccw(c12.45,-4.28) 13.25,-4.28 13.25,4.28 ccw(c12.45,4.28) 12.5,5.079 ; 12.85,-4.973 12.85,4.973 ; 12.05,-5.4 12.05,-4.76 ; 12.05,-5.4 12.5,-5.33 12.5,-4.83 12.05,-4.76 ; 12.05,-2.86 12.5,-2.79 12.5,-2.29 12.05,-2.22 ; 12.05,-2.86 12.05,-2.22 ; 12.05,-0.32 12.5,-0.25 12.5,0.25 12.05,0.32 ; 12.05,-0.32 12.05,0.32 ; 12.05,2.22 12.05,2.86 ; 12.05,2.22 12.5,2.29 12.5,2.79 12.05,2.86 ; 12.05,4.76 12.05,5.4 ; 12.05,4.76 12.5,4.83 12.5,5.33 12.05,5.4 ; 1.75,-6.35 1.75,-5.73 2.75,-5.73 2.75,-4.43 1.75,-4.43 1.75,-3.19 2.75,-3.19 2.75,-1.89 1.75,-1.89 1.75,-0.65 2.75,-0.65 2.75,0.65 1.75,0.65 1.75,1.89 2.75,1.89 2.75,3.19 1.75,3.19 1.75,4.43 2.75,4.43 2.75,5.73 1.75,5.73 1.75,6.35 5.05,6.35 5.05,-6.35 1.75,-6.35
Mechanical 15:
  lines w0.05: -1.2,-6.89 -1.2,6.89 13.5,6.89 13.5,-6.89 -1.2,-6.89
  lines w0.1: -0.5,0 0.5,0 ; 0,-0.5 0,0.5
3D body "CI3105P1H00-NH.STEP": height 5.8, standoff -3.4, extent -0.32,-6.35 13.25,6.35

## WF-6 [mm] "WF Header, 6-Lead, 2.54mm Pitch"
height 11.5
pads (6):
  round 1.8 hole 1.2: 1(0,6.35) 2(0,3.81) 3(0,1.27) 4(0,-1.27) 5(0,-3.81) 6(0,-6.35)
Top Overlay:
  lines w0.2: -3.4,-7.8 -3.4,7.8 2.8,7.8 2.8,-7.8 -3.4,-7.8
Bottom Overlay:
  region: 0,7.46 -0.5,8.326 0.5,8.326
Mechanical 1:
  lines w0.05: 1.55,-1.27 1.55,1.27 ; 1.65,-1.27 1.3,-1.27 1.3,-6.35 2.6,-6.35 ; 1.65,1.27 1.3,1.27 1.3,6.35 2.6,6.35 ; 2.6,-5.55 2.05,-5.55 ; 2.6,5.55 2.05,5.55 ; -0.32,-6.67 -0.32,-6.03 ; -0.32,-6.67 -0.25,-6.6 ; -0.32,-6.67 0.32,-6.67 ; -0.32,-6.03 0.32,-6.03 ; -0.32,-6.03 -0.25,-6.1 ; -0.32,-4.13 -0.32,-3.49 ; -0.32,-4.13 -0.25,-4.06 ; -0.32,-4.13 0.32,-4.13 ; -0.32,-3.49 -0.25,-3.56 ; -0.32,-3.49 0.32,-3.49 ; -0.32,-1.59 -0.32,-0.95 ; -0.32,-1.59 -0.25,-1.52 ; -0.32,-1.59 0.32,-1.59 ; -0.32,-0.95 -0.25,-1.02 ; -0.32,-0.95 0.32,-0.95 ; -0.32,0.95 -0.32,1.59 ; -0.32,0.95 -0.25,1.02 ; -0.32,0.95 0.32,0.95 ; -0.32,1.59 -0.25,1.52 ; -0.32,1.59 0.32,1.59 ; -0.32,3.49 -0.32,4.13 ; -0.32,3.49 -0.25,3.56 ; -0.32,3.49 0.32,3.49 ; -0.32,4.13 -0.25,4.06 ; -0.32,4.13 0.32,4.13 ; -0.32,6.03 -0.32,6.67 ; -0.32,6.03 -0.25,6.1 ; -0.32,6.03 0.32,6.03 ; -0.32,6.67 -0.25,6.6 ; -0.32,6.67 0.32,6.67 ; -0.25,-6.6 0.25,-6.6 ; -0.25,-6.6 -0.25,-6.1 ; -0.25,-6.1 0.25,-6.1 ; -0.25,-4.06 -0.25,-3.56 ; -0.25,-4.06 0.25,-4.06 ; -0.25,-3.56 0.25,-3.56 ; -0.25,-1.52 0.25,-1.52 ; -0.25,-1.52 -0.25,-1.02 ; -0.25,-1.02 0.25,-1.02 ; -0.25,1.02 -0.25,1.52 ; -0.25,1.02 0.25,1.02 ; -0.25,1.52 0.25,1.52 ; -0.25,3.56 0.25,3.56 ; -0.25,3.56 -0.25,4.06 ; -0.25,4.06 0.25,4.06 ; -0.25,6.1 0.25,6.1 ; -0.25,6.1 -0.25,6.6 ; -0.25,6.6 0.25,6.6 ; 0.25,-6.6 0.25,-6.1 ; 0.25,-6.6 0.32,-6.67 ; 0.25,-6.1 0.32,-6.03 ; 0.25,-4.06 0.25,-3.56 ; 0.25,-4.06 0.32,-4.13 ; 0.25,-3.56 0.32,-3.49 ; 0.25,-1.52 0.25,-1.02 ; 0.25,-1.52 0.32,-1.59 ; 0.25,-1.02 0.32,-0.95 ; 0.25,1.02 0.25,1.52 ; 0.25,1.02 0.32,0.95 ; 0.25,1.52 0.32,1.59 ; 0.25,3.56 0.25,4.06 ; 0.25,3.56 0.32,3.49 ; 0.25,4.06 0.32,4.13 ; 0.25,6.1 0.25,6.6 ; 0.25,6.1 0.32,6.03 ; 0.25,6.6 0.32,6.67 ; 0.32,-6.67 0.32,-6.03 ; 0.32,-4.13 0.32,-3.49 ; 0.32,-1.59 0.32,-0.95 ; 0.32,0.95 0.32,1.59 ; 0.32,3.49 0.32,4.13 ; 0.32,6.03 0.32,6.67 ; 2.05,-5.55 2.05,5.55 ; 2.05,-5.55 1.65,-6.35 1.65,6.35 2.05,5.55 ; -3.2,-7.62 2.6,-7.62 2.6,7.62 -3.2,7.62 -3.2,-7.62
Mechanical 15:
  lines w0.05: -3.7,-8.1 -3.7,8.1 3.1,8.1 3.1,-8.1 -3.7,-8.1
  lines w0.1: -0.5,0 0.5,0 ; 0,-0.5 0,0.5
3D body "CI3106P1V00.STEP": height 11.5, standoff -3.4, extent -3.2,-7.62 2.6,7.62